# Altium footprint library Connector_PinHeader_1.27mm.PcbLib: 278 footprints (part 17 of 18)
Each footprint in its own frame and in the unit in brackets; x right, y up, seen from the top. Pads: shape width x height; smd on the part's side, far side on the other; paste and mask are expansions set on the pad; w line width, h text height; cw(c..) or ccw(c..) is an arc to the next point about the centre after c.
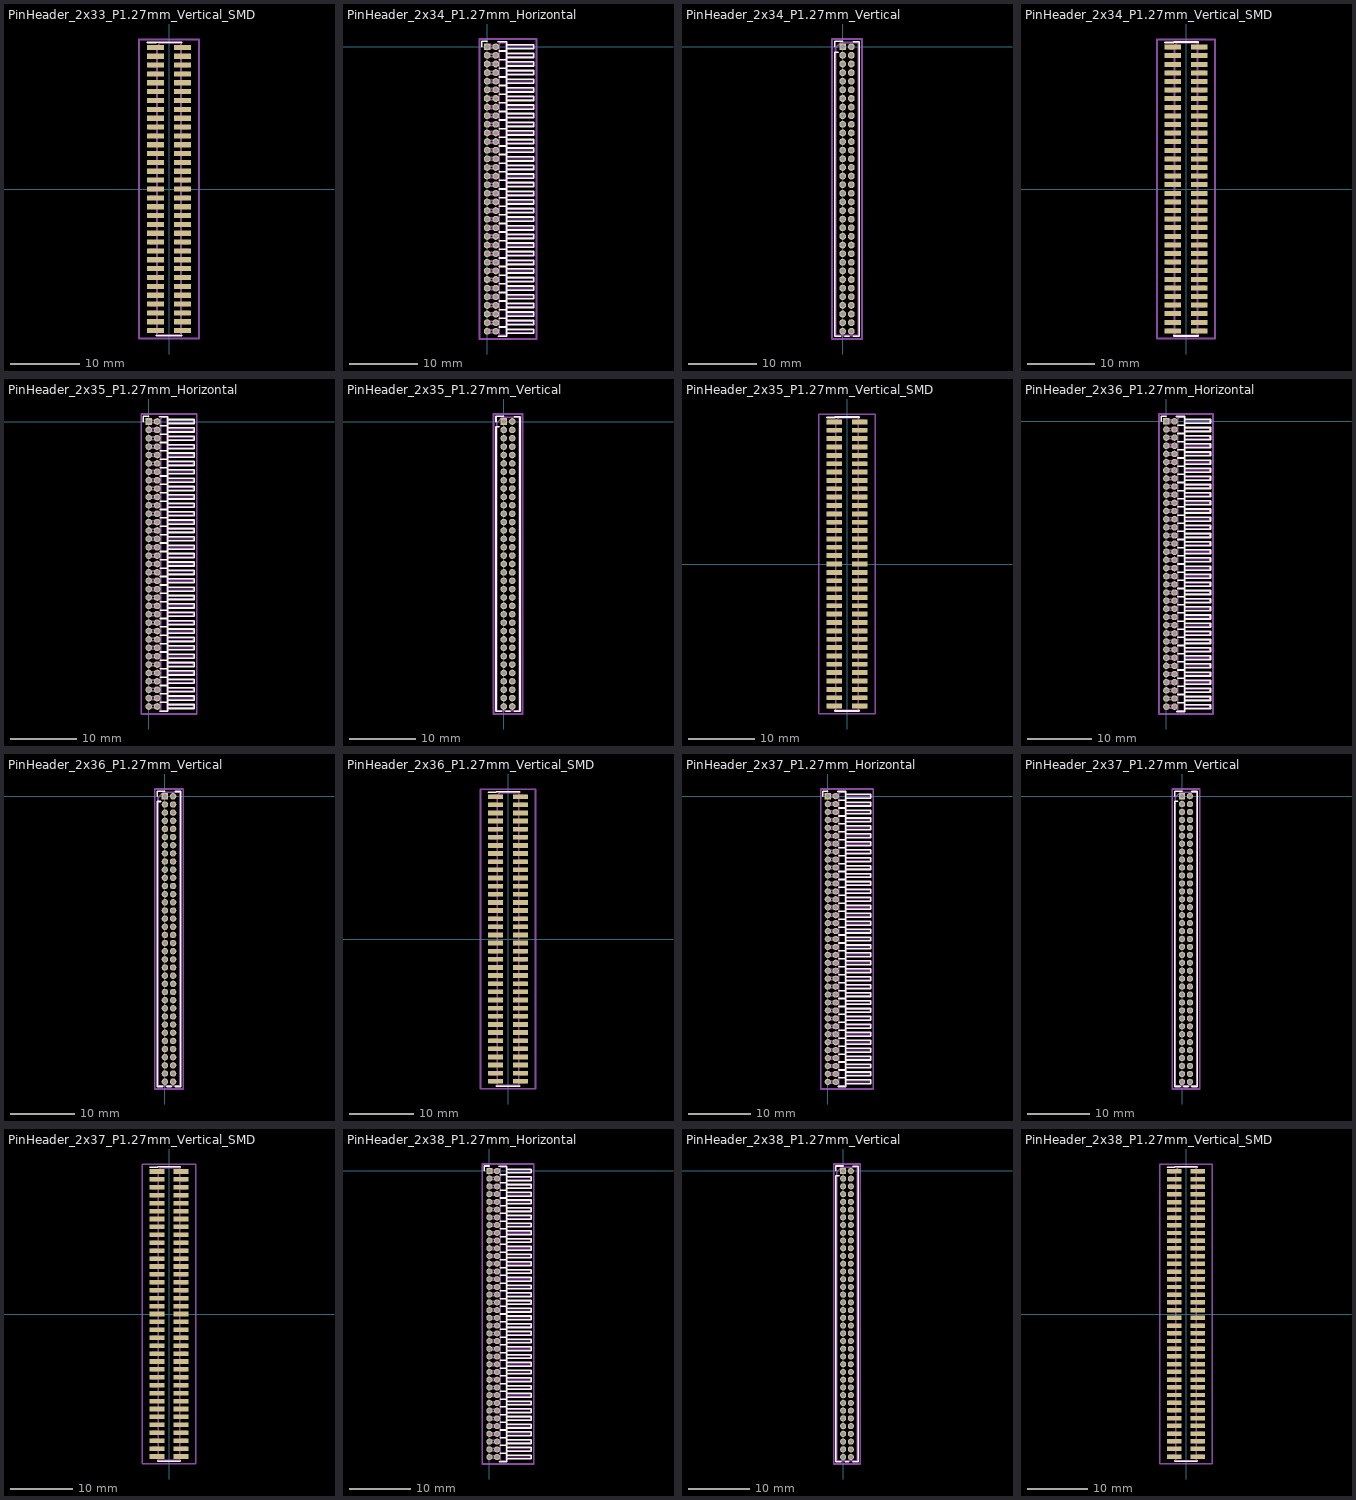
[diagram p16: the footprints below, top view; thin cyan lines are the x and y axes]

## PinHeader_2x33_P1.27mm_Vertical_SMD [mm]
pads (66):
  rect 2.4x0.74 smd: 1(-1.95,20.32) 2(1.95,20.32) 3(-1.95,19.05) 4(1.95,19.05) 5(-1.95,17.78) 6(1.95,17.78) 7(-1.95,16.51) 8(1.95,16.51) 9(-1.95,15.24) 10(1.95,15.24) 11(-1.95,13.97) 12(1.95,13.97) 13(-1.95,12.7) 14(1.95,12.7) 15(-1.95,11.43) 16(1.95,11.43) 17(-1.95,10.16) 18(1.95,10.16) 19(-1.95,8.89) 20(1.95,8.89) 21(-1.95,7.62) 22(1.95,7.62) 23(-1.95,6.35) 24(1.95,6.35) 25(-1.95,5.08) 26(1.95,5.08) 27(-1.95,3.81) 28(1.95,3.81) 29(-1.95,2.54) 30(1.95,2.54) 31(-1.95,1.27) 32(1.95,1.27) 33(-1.95,0) 34(1.95,0) 35(-1.95,-1.27) 36(1.95,-1.27) 37(-1.95,-2.54) 38(1.95,-2.54) 39(-1.95,-3.81) 40(1.95,-3.81) 41(-1.95,-5.08) 42(1.95,-5.08) 43(-1.95,-6.35) 44(1.95,-6.35) 45(-1.95,-7.62) 46(1.95,-7.62) 47(-1.95,-8.89) 48(1.95,-8.89) 49(-1.95,-10.16) 50(1.95,-10.16) 51(-1.95,-11.43) 52(1.95,-11.43) 53(-1.95,-12.7) 54(1.95,-12.7) 55(-1.95,-13.97) 56(1.95,-13.97) 57(-1.95,-15.24) 58(1.95,-15.24) 59(-1.95,-16.51) 60(1.95,-16.51) 61(-1.95,-17.78) 62(1.95,-17.78) 63(-1.95,-19.05) 64(1.95,-19.05) 65(-1.95,-20.32) 66(1.95,-20.32)
F.SilkS:
  lines w0.254: -3.09,21 -1.815,21 -1.815,21.065 1.815,21.065 1.815,21 ; -1.815,-21 -1.815,-21.065 1.815,-21.065 1.815,-21
Top Assembly:
  drawing of 203 lines, arcs and shapes, not listed
  text "'.Designator'" at 0.84,-4.047 h1
Top Courtyard:
  lines w0.254: -4.29,-21.46 4.29,-21.46 4.29,21.46 -4.29,21.46 -4.29,-21.46
Top Designator:
  text ".Designator" at -7.618,-0.508 h1.52

## PinHeader_2x34_P1.27mm_Horizontal [mm]
pads (68):
  rect 1x1 hole 0.65: 1(0,0)
  round 1 hole 0.65: 2(1.27,0) 3(0,-1.27) 4(1.27,-1.27) 5(0,-2.54) 6(1.27,-2.54) 7(0,-3.81) 8(1.27,-3.81) 9(0,-5.08) 10(1.27,-5.08) 11(0,-6.35) 12(1.27,-6.35) 13(0,-7.62) 14(1.27,-7.62) 15(0,-8.89) 16(1.27,-8.89) 17(0,-10.16) 18(1.27,-10.16) 19(0,-11.43) 20(1.27,-11.43) 21(0,-12.7) 22(1.27,-12.7) 23(0,-13.97) 24(1.27,-13.97) 25(0,-15.24) 26(1.27,-15.24) 27(0,-16.51) 28(1.27,-16.51) 29(0,-17.78) 30(1.27,-17.78) 31(0,-19.05) 32(1.27,-19.05) 33(0,-20.32) 34(1.27,-20.32) 35(0,-21.59) 36(1.27,-21.59) 37(0,-22.86) 38(1.27,-22.86) 39(0,-24.13) 40(1.27,-24.13) 41(0,-25.4) 42(1.27,-25.4) 43(0,-26.67) 44(1.27,-26.67) 45(0,-27.94) 46(1.27,-27.94) 47(0,-29.21) 48(1.27,-29.21) 49(0,-30.48) 50(1.27,-30.48) 51(0,-31.75) 52(1.27,-31.75) 53(0,-33.02) 54(1.27,-33.02) 55(0,-34.29) 56(1.27,-34.29) 57(0,-35.56) 58(1.27,-35.56) 59(0,-36.83) 60(1.27,-36.83) 61(0,-38.1) 62(1.27,-38.1) 63(0,-39.37) 64(1.27,-39.37) 65(0,-40.64) 66(1.27,-40.64) 67(0,-41.91) 68(1.27,-41.91)
F.SilkS:
  lines w0.254: -0.81,0 -0.81,0.81 0,0.81 ; 1.588,0.745 2.88,0.745 2.88,-42.655 1.66,-42.655 ; 1.773,-41.275 2.88,-41.275 ; 1.773,-40.005 2.88,-40.005 ; 1.773,-38.735 2.88,-38.735 ; 1.773,-37.465 2.88,-37.465 ; 1.773,-36.195 2.88,-36.195 ; 1.773,-34.925 2.88,-34.925 ; 1.773,-33.655 2.88,-33.655 ; 1.773,-32.385 2.88,-32.385 ; 1.773,-31.115 2.88,-31.115 ; 1.773,-29.845 2.88,-29.845 ; 1.773,-28.575 2.88,-28.575 ; 1.773,-27.305 2.88,-27.305 ; 1.773,-26.035 2.88,-26.035 ; 1.773,-24.765 2.88,-24.765 ; 1.773,-23.495 2.88,-23.495 ; 1.773,-22.225 2.88,-22.225 ; 1.773,-20.955 2.88,-20.955 ; 1.773,-19.685 2.88,-19.685 ; 1.773,-18.415 2.88,-18.415 ; 1.773,-17.145 2.88,-17.145 ; 1.773,-15.875 2.88,-15.875 ; 1.773,-14.605 2.88,-14.605 ; 1.773,-13.335 2.88,-13.335 ; 1.773,-12.065 2.88,-12.065 ; 1.773,-10.795 2.88,-10.795 ; 1.773,-9.525 2.88,-9.525 ; 1.773,-8.255 2.88,-8.255 ; 1.773,-6.985 2.88,-6.985 ; 1.773,-5.715 2.88,-5.715 ; 1.773,-4.445 2.88,-4.445 ; 1.773,-3.175 2.88,-3.175 ; 1.773,-1.905 2.88,-1.905 ; 1.773,-0.635 2.88,-0.635 ; 2.88,-42.22 6.88,-42.22 6.88,-41.6 2.88,-41.6 ; 2.88,-40.95 6.88,-40.95 6.88,-40.33 2.88,-40.33 ; 2.88,-39.68 6.88,-39.68 6.88,-39.06 2.88,-39.06 ; 2.88,-38.41 6.88,-38.41 6.88,-37.79 2.88,-37.79 ; 2.88,-37.14 6.88,-37.14 6.88,-36.52 2.88,-36.52 ; 2.88,-35.87 6.88,-35.87 6.88,-35.25 2.88,-35.25 ; 2.88,-34.6 6.88,-34.6 6.88,-33.98 2.88,-33.98 ; 2.88,-33.33 6.88,-33.33 6.88,-32.71 2.88,-32.71 ; 2.88,-32.06 6.88,-32.06 6.88,-31.44 2.88,-31.44 ; 2.88,-30.79 6.88,-30.79 6.88,-30.17 2.88,-30.17 ; 2.88,-29.52 6.88,-29.52 6.88,-28.9 2.88,-28.9 ; 2.88,-28.25 6.88,-28.25 6.88,-27.63 2.88,-27.63 ; 2.88,-26.98 6.88,-26.98 6.88,-26.36 2.88,-26.36 ; 2.88,-25.71 6.88,-25.71 6.88,-25.09 2.88,-25.09 ; 2.88,-24.44 6.88,-24.44 6.88,-23.82 2.88,-23.82 ; 2.88,-23.17 6.88,-23.17 6.88,-22.55 2.88,-22.55 ; 2.88,-21.9 6.88,-21.9 6.88,-21.28 2.88,-21.28 ; 2.88,-20.63 6.88,-20.63 6.88,-20.01 2.88,-20.01 ; 2.88,-19.36 6.88,-19.36 6.88,-18.74 2.88,-18.74 ; 2.88,-18.09 6.88,-18.09 6.88,-17.47 2.88,-17.47 ; 2.88,-16.82 6.88,-16.82 6.88,-16.2 2.88,-16.2 ; 2.88,-15.55 6.88,-15.55 6.88,-14.93 2.88,-14.93 ; 2.88,-14.28 6.88,-14.28 6.88,-13.66 2.88,-13.66 ; 2.88,-13.01 6.88,-13.01 6.88,-12.39 2.88,-12.39 ; 2.88,-11.74 6.88,-11.74 6.88,-11.12 2.88,-11.12 ; 2.88,-10.47 6.88,-10.47 6.88,-9.85 2.88,-9.85 ; 2.88,-9.2 6.88,-9.2 6.88,-8.58 2.88,-8.58 ; 2.88,-7.93 6.88,-7.93 6.88,-7.31 2.88,-7.31 ; 2.88,-6.66 6.88,-6.66 6.88,-6.04 2.88,-6.04 ; 2.88,-5.39 6.88,-5.39 6.88,-4.77 2.88,-4.77 ; 2.88,-4.12 6.88,-4.12 6.88,-3.5 2.88,-3.5 ; 2.88,-2.85 6.88,-2.85 6.88,-2.23 2.88,-2.23 ; 2.88,-1.58 6.88,-1.58 6.88,-0.96 2.88,-0.96 ; 2.88,-0.31 6.88,-0.31 6.88,0.31 2.88,0.31 2.88,-0.31
Top Assembly:
  drawing of 209 lines, arcs and shapes, not listed
  text "'.Designator'" at 2.774,-23.383 h0.6
Top Courtyard:
  lines w0.254: -1.14,-43.05 7.28,-43.05 7.28,1.14 -1.14,1.14 -1.14,-43.05
Top Designator:
  text ".Designator" at -4.548,-21.463 h1.52

## PinHeader_2x34_P1.27mm_Vertical [mm]
pads (68):
  rect 1x1 hole 0.65: 1(0,0)
  round 1 hole 0.65: 2(1.27,0) 3(0,-1.27) 4(1.27,-1.27) 5(0,-2.54) 6(1.27,-2.54) 7(0,-3.81) 8(1.27,-3.81) 9(0,-5.08) 10(1.27,-5.08) 11(0,-6.35) 12(1.27,-6.35) 13(0,-7.62) 14(1.27,-7.62) 15(0,-8.89) 16(1.27,-8.89) 17(0,-10.16) 18(1.27,-10.16) 19(0,-11.43) 20(1.27,-11.43) 21(0,-12.7) 22(1.27,-12.7) 23(0,-13.97) 24(1.27,-13.97) 25(0,-15.24) 26(1.27,-15.24) 27(0,-16.51) 28(1.27,-16.51) 29(0,-17.78) 30(1.27,-17.78) 31(0,-19.05) 32(1.27,-19.05) 33(0,-20.32) 34(1.27,-20.32) 35(0,-21.59) 36(1.27,-21.59) 37(0,-22.86) 38(1.27,-22.86) 39(0,-24.13) 40(1.27,-24.13) 41(0,-25.4) 42(1.27,-25.4) 43(0,-26.67) 44(1.27,-26.67) 45(0,-27.94) 46(1.27,-27.94) 47(0,-29.21) 48(1.27,-29.21) 49(0,-30.48) 50(1.27,-30.48) 51(0,-31.75) 52(1.27,-31.75) 53(0,-33.02) 54(1.27,-33.02) 55(0,-34.29) 56(1.27,-34.29) 57(0,-35.56) 58(1.27,-35.56) 59(0,-36.83) 60(1.27,-36.83) 61(0,-38.1) 62(1.27,-38.1) 63(0,-39.37) 64(1.27,-39.37) 65(0,-40.64) 66(1.27,-40.64) 67(0,-41.91) 68(1.27,-41.91)
F.SilkS:
  lines w0.254: -1.18,0 -1.18,0.81 0,0.81 ; -0.667,-0.81 -1.18,-0.81 -1.18,-42.655 -0.318,-42.655 ; 0.318,-42.655 0.952,-42.655 ; 1.588,-42.655 2.45,-42.655 2.45,0.745 1.588,0.745
Top Assembly:
  lines w0.254: -1.07,-42.545 2.34,-42.545 2.34,0.635 -0.218,0.635 -1.07,-0.218 -1.07,-42.545
  text "'.Designator'" at 1.475,-25.002 h1
Top Courtyard:
  lines w0.254: -1.57,-43.05 2.84,-43.05 2.84,1.14 -1.57,1.14 -1.57,-43.05
Top Designator:
  text ".Designator" at -6.983,-21.463 h1.52

## PinHeader_2x34_P1.27mm_Vertical_SMD [mm]
pads (68):
  rect 2.4x0.74 smd: 1(-1.95,20.955) 2(1.95,20.955) 3(-1.95,19.685) 4(1.95,19.685) 5(-1.95,18.415) 6(1.95,18.415) 7(-1.95,17.145) 8(1.95,17.145) 9(-1.95,15.875) 10(1.95,15.875) 11(-1.95,14.605) 12(1.95,14.605) 13(-1.95,13.335) 14(1.95,13.335) 15(-1.95,12.065) 16(1.95,12.065) 17(-1.95,10.795) 18(1.95,10.795) 19(-1.95,9.525) 20(1.95,9.525) 21(-1.95,8.255) 22(1.95,8.255) 23(-1.95,6.985) 24(1.95,6.985) 25(-1.95,5.715) 26(1.95,5.715) 27(-1.95,4.445) 28(1.95,4.445) 29(-1.95,3.175) 30(1.95,3.175) 31(-1.95,1.905) 32(1.95,1.905) 33(-1.95,0.635) 34(1.95,0.635) 35(-1.95,-0.635) 36(1.95,-0.635) 37(-1.95,-1.905) 38(1.95,-1.905) 39(-1.95,-3.175) 40(1.95,-3.175) 41(-1.95,-4.445) 42(1.95,-4.445) 43(-1.95,-5.715) 44(1.95,-5.715) 45(-1.95,-6.985) 46(1.95,-6.985) 47(-1.95,-8.255) 48(1.95,-8.255) 49(-1.95,-9.525) 50(1.95,-9.525) 51(-1.95,-10.795) 52(1.95,-10.795) 53(-1.95,-12.065) 54(1.95,-12.065) 55(-1.95,-13.335) 56(1.95,-13.335) 57(-1.95,-14.605) 58(1.95,-14.605) 59(-1.95,-15.875) 60(1.95,-15.875) 61(-1.95,-17.145) 62(1.95,-17.145) 63(-1.95,-18.415) 64(1.95,-18.415) 65(-1.95,-19.685) 66(1.95,-19.685) 67(-1.95,-20.955) 68(1.95,-20.955)
F.SilkS:
  lines w0.254: -3.09,21.635 -1.815,21.635 -1.815,21.7 1.815,21.7 1.815,21.635 ; -1.815,-21.635 -1.815,-21.7 1.815,-21.7 1.815,-21.635
Top Assembly:
  drawing of 209 lines, arcs and shapes, not listed
  text "'.Designator'" at 0.84,-4.047 h1
Top Courtyard:
  lines w0.254: -4.29,-22.09 4.29,-22.09 4.29,22.09 -4.29,22.09 -4.29,-22.09
Top Designator:
  text ".Designator" at -7.618,-0.508 h1.52

## PinHeader_2x35_P1.27mm_Horizontal [mm]
pads (70):
  rect 1x1 hole 0.65: 1(0,0)
  round 1 hole 0.65: 2(1.27,0) 3(0,-1.27) 4(1.27,-1.27) 5(0,-2.54) 6(1.27,-2.54) 7(0,-3.81) 8(1.27,-3.81) 9(0,-5.08) 10(1.27,-5.08) 11(0,-6.35) 12(1.27,-6.35) 13(0,-7.62) 14(1.27,-7.62) 15(0,-8.89) 16(1.27,-8.89) 17(0,-10.16) 18(1.27,-10.16) 19(0,-11.43) 20(1.27,-11.43) 21(0,-12.7) 22(1.27,-12.7) 23(0,-13.97) 24(1.27,-13.97) 25(0,-15.24) 26(1.27,-15.24) 27(0,-16.51) 28(1.27,-16.51) 29(0,-17.78) 30(1.27,-17.78) 31(0,-19.05) 32(1.27,-19.05) 33(0,-20.32) 34(1.27,-20.32) 35(0,-21.59) 36(1.27,-21.59) 37(0,-22.86) 38(1.27,-22.86) 39(0,-24.13) 40(1.27,-24.13) 41(0,-25.4) 42(1.27,-25.4) 43(0,-26.67) 44(1.27,-26.67) 45(0,-27.94) 46(1.27,-27.94) 47(0,-29.21) 48(1.27,-29.21) 49(0,-30.48) 50(1.27,-30.48) 51(0,-31.75) 52(1.27,-31.75) 53(0,-33.02) 54(1.27,-33.02) 55(0,-34.29) 56(1.27,-34.29) 57(0,-35.56) 58(1.27,-35.56) 59(0,-36.83) 60(1.27,-36.83) 61(0,-38.1) 62(1.27,-38.1) 63(0,-39.37) 64(1.27,-39.37) 65(0,-40.64) 66(1.27,-40.64) 67(0,-41.91) 68(1.27,-41.91) 69(0,-43.18) 70(1.27,-43.18)
F.SilkS:
  lines w0.254: -0.81,0 -0.81,0.81 0,0.81 ; 1.588,0.745 2.88,0.745 2.88,-43.925 1.66,-43.925 ; 1.773,-42.545 2.88,-42.545 ; 1.773,-41.275 2.88,-41.275 ; 1.773,-40.005 2.88,-40.005 ; 1.773,-38.735 2.88,-38.735 ; 1.773,-37.465 2.88,-37.465 ; 1.773,-36.195 2.88,-36.195 ; 1.773,-34.925 2.88,-34.925 ; 1.773,-33.655 2.88,-33.655 ; 1.773,-32.385 2.88,-32.385 ; 1.773,-31.115 2.88,-31.115 ; 1.773,-29.845 2.88,-29.845 ; 1.773,-28.575 2.88,-28.575 ; 1.773,-27.305 2.88,-27.305 ; 1.773,-26.035 2.88,-26.035 ; 1.773,-24.765 2.88,-24.765 ; 1.773,-23.495 2.88,-23.495 ; 1.773,-22.225 2.88,-22.225 ; 1.773,-20.955 2.88,-20.955 ; 1.773,-19.685 2.88,-19.685 ; 1.773,-18.415 2.88,-18.415 ; 1.773,-17.145 2.88,-17.145 ; 1.773,-15.875 2.88,-15.875 ; 1.773,-14.605 2.88,-14.605 ; 1.773,-13.335 2.88,-13.335 ; 1.773,-12.065 2.88,-12.065 ; 1.773,-10.795 2.88,-10.795 ; 1.773,-9.525 2.88,-9.525 ; 1.773,-8.255 2.88,-8.255 ; 1.773,-6.985 2.88,-6.985 ; 1.773,-5.715 2.88,-5.715 ; 1.773,-4.445 2.88,-4.445 ; 1.773,-3.175 2.88,-3.175 ; 1.773,-1.905 2.88,-1.905 ; 1.773,-0.635 2.88,-0.635 ; 2.88,-43.49 6.88,-43.49 6.88,-42.87 2.88,-42.87 ; 2.88,-42.22 6.88,-42.22 6.88,-41.6 2.88,-41.6 ; 2.88,-40.95 6.88,-40.95 6.88,-40.33 2.88,-40.33 ; 2.88,-39.68 6.88,-39.68 6.88,-39.06 2.88,-39.06 ; 2.88,-38.41 6.88,-38.41 6.88,-37.79 2.88,-37.79 ; 2.88,-37.14 6.88,-37.14 6.88,-36.52 2.88,-36.52 ; 2.88,-35.87 6.88,-35.87 6.88,-35.25 2.88,-35.25 ; 2.88,-34.6 6.88,-34.6 6.88,-33.98 2.88,-33.98 ; 2.88,-33.33 6.88,-33.33 6.88,-32.71 2.88,-32.71 ; 2.88,-32.06 6.88,-32.06 6.88,-31.44 2.88,-31.44 ; 2.88,-30.79 6.88,-30.79 6.88,-30.17 2.88,-30.17 ; 2.88,-29.52 6.88,-29.52 6.88,-28.9 2.88,-28.9 ; 2.88,-28.25 6.88,-28.25 6.88,-27.63 2.88,-27.63 ; 2.88,-26.98 6.88,-26.98 6.88,-26.36 2.88,-26.36 ; 2.88,-25.71 6.88,-25.71 6.88,-25.09 2.88,-25.09 ; 2.88,-24.44 6.88,-24.44 6.88,-23.82 2.88,-23.82 ; 2.88,-23.17 6.88,-23.17 6.88,-22.55 2.88,-22.55 ; 2.88,-21.9 6.88,-21.9 6.88,-21.28 2.88,-21.28 ; 2.88,-20.63 6.88,-20.63 6.88,-20.01 2.88,-20.01 ; 2.88,-19.36 6.88,-19.36 6.88,-18.74 2.88,-18.74 ; 2.88,-18.09 6.88,-18.09 6.88,-17.47 2.88,-17.47 ; 2.88,-16.82 6.88,-16.82 6.88,-16.2 2.88,-16.2 ; 2.88,-15.55 6.88,-15.55 6.88,-14.93 2.88,-14.93 ; 2.88,-14.28 6.88,-14.28 6.88,-13.66 2.88,-13.66 ; 2.88,-13.01 6.88,-13.01 6.88,-12.39 2.88,-12.39 ; 2.88,-11.74 6.88,-11.74 6.88,-11.12 2.88,-11.12 ; 2.88,-10.47 6.88,-10.47 6.88,-9.85 2.88,-9.85 ; 2.88,-9.2 6.88,-9.2 6.88,-8.58 2.88,-8.58 ; 2.88,-7.93 6.88,-7.93 6.88,-7.31 2.88,-7.31 ; 2.88,-6.66 6.88,-6.66 6.88,-6.04 2.88,-6.04 ; 2.88,-5.39 6.88,-5.39 6.88,-4.77 2.88,-4.77 ; 2.88,-4.12 6.88,-4.12 6.88,-3.5 2.88,-3.5 ; 2.88,-2.85 6.88,-2.85 6.88,-2.23 2.88,-2.23 ; 2.88,-1.58 6.88,-1.58 6.88,-0.96 2.88,-0.96 ; 2.88,-0.31 6.88,-0.31 6.88,0.31 2.88,0.31 2.88,-0.31
Top Assembly:
  drawing of 215 lines, arcs and shapes, not listed
  text "'.Designator'" at 2.774,-24.018 h0.6
Top Courtyard:
  lines w0.254: -1.14,-44.32 7.28,-44.32 7.28,1.14 -1.14,1.14 -1.14,-44.32
Top Designator:
  text ".Designator" at -4.548,-22.098 h1.52

## PinHeader_2x35_P1.27mm_Vertical [mm]
pads (70):
  rect 1x1 hole 0.65: 1(0,0)
  round 1 hole 0.65: 2(1.27,0) 3(0,-1.27) 4(1.27,-1.27) 5(0,-2.54) 6(1.27,-2.54) 7(0,-3.81) 8(1.27,-3.81) 9(0,-5.08) 10(1.27,-5.08) 11(0,-6.35) 12(1.27,-6.35) 13(0,-7.62) 14(1.27,-7.62) 15(0,-8.89) 16(1.27,-8.89) 17(0,-10.16) 18(1.27,-10.16) 19(0,-11.43) 20(1.27,-11.43) 21(0,-12.7) 22(1.27,-12.7) 23(0,-13.97) 24(1.27,-13.97) 25(0,-15.24) 26(1.27,-15.24) 27(0,-16.51) 28(1.27,-16.51) 29(0,-17.78) 30(1.27,-17.78) 31(0,-19.05) 32(1.27,-19.05) 33(0,-20.32) 34(1.27,-20.32) 35(0,-21.59) 36(1.27,-21.59) 37(0,-22.86) 38(1.27,-22.86) 39(0,-24.13) 40(1.27,-24.13) 41(0,-25.4) 42(1.27,-25.4) 43(0,-26.67) 44(1.27,-26.67) 45(0,-27.94) 46(1.27,-27.94) 47(0,-29.21) 48(1.27,-29.21) 49(0,-30.48) 50(1.27,-30.48) 51(0,-31.75) 52(1.27,-31.75) 53(0,-33.02) 54(1.27,-33.02) 55(0,-34.29) 56(1.27,-34.29) 57(0,-35.56) 58(1.27,-35.56) 59(0,-36.83) 60(1.27,-36.83) 61(0,-38.1) 62(1.27,-38.1) 63(0,-39.37) 64(1.27,-39.37) 65(0,-40.64) 66(1.27,-40.64) 67(0,-41.91) 68(1.27,-41.91) 69(0,-43.18) 70(1.27,-43.18)
F.SilkS:
  lines w0.254: -1.18,0 -1.18,0.81 0,0.81 ; -0.667,-0.81 -1.18,-0.81 -1.18,-43.925 -0.318,-43.925 ; 0.318,-43.925 0.952,-43.925 ; 1.588,-43.925 2.45,-43.925 2.45,0.745 1.588,0.745
Top Assembly:
  lines w0.254: -1.07,-43.815 2.34,-43.815 2.34,0.635 -0.218,0.635 -1.07,-0.218 -1.07,-43.815
  text "'.Designator'" at 1.475,-25.637 h1
Top Courtyard:
  lines w0.254: -1.57,-44.32 2.84,-44.32 2.84,1.14 -1.57,1.14 -1.57,-44.32
Top Designator:
  text ".Designator" at -6.983,-22.098 h1.52

## PinHeader_2x35_P1.27mm_Vertical_SMD [mm]
pads (70):
  rect 2.4x0.74 smd: 1(-1.95,21.59) 2(1.95,21.59) 3(-1.95,20.32) 4(1.95,20.32) 5(-1.95,19.05) 6(1.95,19.05) 7(-1.95,17.78) 8(1.95,17.78) 9(-1.95,16.51) 10(1.95,16.51) 11(-1.95,15.24) 12(1.95,15.24) 13(-1.95,13.97) 14(1.95,13.97) 15(-1.95,12.7) 16(1.95,12.7) 17(-1.95,11.43) 18(1.95,11.43) 19(-1.95,10.16) 20(1.95,10.16) 21(-1.95,8.89) 22(1.95,8.89) 23(-1.95,7.62) 24(1.95,7.62) 25(-1.95,6.35) 26(1.95,6.35) 27(-1.95,5.08) 28(1.95,5.08) 29(-1.95,3.81) 30(1.95,3.81) 31(-1.95,2.54) 32(1.95,2.54) 33(-1.95,1.27) 34(1.95,1.27) 35(-1.95,0) 36(1.95,0) 37(-1.95,-1.27) 38(1.95,-1.27) 39(-1.95,-2.54) 40(1.95,-2.54) 41(-1.95,-3.81) 42(1.95,-3.81) 43(-1.95,-5.08) 44(1.95,-5.08) 45(-1.95,-6.35) 46(1.95,-6.35) 47(-1.95,-7.62) 48(1.95,-7.62) 49(-1.95,-8.89) 50(1.95,-8.89) 51(-1.95,-10.16) 52(1.95,-10.16) 53(-1.95,-11.43) 54(1.95,-11.43) 55(-1.95,-12.7) 56(1.95,-12.7) 57(-1.95,-13.97) 58(1.95,-13.97) 59(-1.95,-15.24) 60(1.95,-15.24) 61(-1.95,-16.51) 62(1.95,-16.51) 63(-1.95,-17.78) 64(1.95,-17.78) 65(-1.95,-19.05) 66(1.95,-19.05) 67(-1.95,-20.32) 68(1.95,-20.32) 69(-1.95,-21.59) 70(1.95,-21.59)
F.SilkS:
  lines w0.254: -3.09,22.27 -1.815,22.27 -1.815,22.335 1.815,22.335 1.815,22.27 ; -1.815,-22.27 -1.815,-22.335 1.815,-22.335 1.815,-22.27
Top Assembly:
  drawing of 215 lines, arcs and shapes, not listed
  text "'.Designator'" at 0.84,-4.047 h1
Top Courtyard:
  lines w0.254: -4.29,-22.73 4.29,-22.73 4.29,22.73 -4.29,22.73 -4.29,-22.73
Top Designator:
  text ".Designator" at -7.618,-0.508 h1.52

## PinHeader_2x36_P1.27mm_Horizontal [mm]
pads (72):
  rect 1x1 hole 0.65: 1(0,0)
  round 1 hole 0.65: 2(1.27,0) 3(0,-1.27) 4(1.27,-1.27) 5(0,-2.54) 6(1.27,-2.54) 7(0,-3.81) 8(1.27,-3.81) 9(0,-5.08) 10(1.27,-5.08) 11(0,-6.35) 12(1.27,-6.35) 13(0,-7.62) 14(1.27,-7.62) 15(0,-8.89) 16(1.27,-8.89) 17(0,-10.16) 18(1.27,-10.16) 19(0,-11.43) 20(1.27,-11.43) 21(0,-12.7) 22(1.27,-12.7) 23(0,-13.97) 24(1.27,-13.97) 25(0,-15.24) 26(1.27,-15.24) 27(0,-16.51) 28(1.27,-16.51) 29(0,-17.78) 30(1.27,-17.78) 31(0,-19.05) 32(1.27,-19.05) 33(0,-20.32) 34(1.27,-20.32) 35(0,-21.59) 36(1.27,-21.59) 37(0,-22.86) 38(1.27,-22.86) 39(0,-24.13) 40(1.27,-24.13) 41(0,-25.4) 42(1.27,-25.4) 43(0,-26.67) 44(1.27,-26.67) 45(0,-27.94) 46(1.27,-27.94) 47(0,-29.21) 48(1.27,-29.21) 49(0,-30.48) 50(1.27,-30.48) 51(0,-31.75) 52(1.27,-31.75) 53(0,-33.02) 54(1.27,-33.02) 55(0,-34.29) 56(1.27,-34.29) 57(0,-35.56) 58(1.27,-35.56) 59(0,-36.83) 60(1.27,-36.83) 61(0,-38.1) 62(1.27,-38.1) 63(0,-39.37) 64(1.27,-39.37) 65(0,-40.64) 66(1.27,-40.64) 67(0,-41.91) 68(1.27,-41.91) 69(0,-43.18) 70(1.27,-43.18) 71(0,-44.45) 72(1.27,-44.45)
F.SilkS:
  lines w0.254: -0.81,0 -0.81,0.81 0,0.81 ; 1.588,0.745 2.88,0.745 2.88,-45.195 1.66,-45.195 ; 1.773,-43.815 2.88,-43.815 ; 1.773,-42.545 2.88,-42.545 ; 1.773,-41.275 2.88,-41.275 ; 1.773,-40.005 2.88,-40.005 ; 1.773,-38.735 2.88,-38.735 ; 1.773,-37.465 2.88,-37.465 ; 1.773,-36.195 2.88,-36.195 ; 1.773,-34.925 2.88,-34.925 ; 1.773,-33.655 2.88,-33.655 ; 1.773,-32.385 2.88,-32.385 ; 1.773,-31.115 2.88,-31.115 ; 1.773,-29.845 2.88,-29.845 ; 1.773,-28.575 2.88,-28.575 ; 1.773,-27.305 2.88,-27.305 ; 1.773,-26.035 2.88,-26.035 ; 1.773,-24.765 2.88,-24.765 ; 1.773,-23.495 2.88,-23.495 ; 1.773,-22.225 2.88,-22.225 ; 1.773,-20.955 2.88,-20.955 ; 1.773,-19.685 2.88,-19.685 ; 1.773,-18.415 2.88,-18.415 ; 1.773,-17.145 2.88,-17.145 ; 1.773,-15.875 2.88,-15.875 ; 1.773,-14.605 2.88,-14.605 ; 1.773,-13.335 2.88,-13.335 ; 1.773,-12.065 2.88,-12.065 ; 1.773,-10.795 2.88,-10.795 ; 1.773,-9.525 2.88,-9.525 ; 1.773,-8.255 2.88,-8.255 ; 1.773,-6.985 2.88,-6.985 ; 1.773,-5.715 2.88,-5.715 ; 1.773,-4.445 2.88,-4.445 ; 1.773,-3.175 2.88,-3.175 ; 1.773,-1.905 2.88,-1.905 ; 1.773,-0.635 2.88,-0.635 ; 2.88,-44.76 6.88,-44.76 6.88,-44.14 2.88,-44.14 ; 2.88,-43.49 6.88,-43.49 6.88,-42.87 2.88,-42.87 ; 2.88,-42.22 6.88,-42.22 6.88,-41.6 2.88,-41.6 ; 2.88,-40.95 6.88,-40.95 6.88,-40.33 2.88,-40.33 ; 2.88,-39.68 6.88,-39.68 6.88,-39.06 2.88,-39.06 ; 2.88,-38.41 6.88,-38.41 6.88,-37.79 2.88,-37.79 ; 2.88,-37.14 6.88,-37.14 6.88,-36.52 2.88,-36.52 ; 2.88,-35.87 6.88,-35.87 6.88,-35.25 2.88,-35.25 ; 2.88,-34.6 6.88,-34.6 6.88,-33.98 2.88,-33.98 ; 2.88,-33.33 6.88,-33.33 6.88,-32.71 2.88,-32.71 ; 2.88,-32.06 6.88,-32.06 6.88,-31.44 2.88,-31.44 ; 2.88,-30.79 6.88,-30.79 6.88,-30.17 2.88,-30.17 ; 2.88,-29.52 6.88,-29.52 6.88,-28.9 2.88,-28.9 ; 2.88,-28.25 6.88,-28.25 6.88,-27.63 2.88,-27.63 ; 2.88,-26.98 6.88,-26.98 6.88,-26.36 2.88,-26.36 ; 2.88,-25.71 6.88,-25.71 6.88,-25.09 2.88,-25.09 ; 2.88,-24.44 6.88,-24.44 6.88,-23.82 2.88,-23.82 ; 2.88,-23.17 6.88,-23.17 6.88,-22.55 2.88,-22.55 ; 2.88,-21.9 6.88,-21.9 6.88,-21.28 2.88,-21.28 ; 2.88,-20.63 6.88,-20.63 6.88,-20.01 2.88,-20.01 ; 2.88,-19.36 6.88,-19.36 6.88,-18.74 2.88,-18.74 ; 2.88,-18.09 6.88,-18.09 6.88,-17.47 2.88,-17.47 ; 2.88,-16.82 6.88,-16.82 6.88,-16.2 2.88,-16.2 ; 2.88,-15.55 6.88,-15.55 6.88,-14.93 2.88,-14.93 ; 2.88,-14.28 6.88,-14.28 6.88,-13.66 2.88,-13.66 ; 2.88,-13.01 6.88,-13.01 6.88,-12.39 2.88,-12.39 ; 2.88,-11.74 6.88,-11.74 6.88,-11.12 2.88,-11.12 ; 2.88,-10.47 6.88,-10.47 6.88,-9.85 2.88,-9.85 ; 2.88,-9.2 6.88,-9.2 6.88,-8.58 2.88,-8.58 ; 2.88,-7.93 6.88,-7.93 6.88,-7.31 2.88,-7.31 ; 2.88,-6.66 6.88,-6.66 6.88,-6.04 2.88,-6.04 ; 2.88,-5.39 6.88,-5.39 6.88,-4.77 2.88,-4.77 ; 2.88,-4.12 6.88,-4.12 6.88,-3.5 2.88,-3.5 ; 2.88,-2.85 6.88,-2.85 6.88,-2.23 2.88,-2.23 ; 2.88,-1.58 6.88,-1.58 6.88,-0.96 2.88,-0.96 ; 2.88,-0.31 6.88,-0.31 6.88,0.31 2.88,0.31 2.88,-0.31
Top Assembly:
  drawing of 221 lines, arcs and shapes, not listed
  text "'.Designator'" at 2.774,-24.653 h0.6
Top Courtyard:
  lines w0.254: -1.14,-45.59 7.28,-45.59 7.28,1.14 -1.14,1.14 -1.14,-45.59
Top Designator:
  text ".Designator" at -4.548,-22.733 h1.52

## PinHeader_2x36_P1.27mm_Vertical [mm]
pads (72):
  rect 1x1 hole 0.65: 1(0,0)
  round 1 hole 0.65: 2(1.27,0) 3(0,-1.27) 4(1.27,-1.27) 5(0,-2.54) 6(1.27,-2.54) 7(0,-3.81) 8(1.27,-3.81) 9(0,-5.08) 10(1.27,-5.08) 11(0,-6.35) 12(1.27,-6.35) 13(0,-7.62) 14(1.27,-7.62) 15(0,-8.89) 16(1.27,-8.89) 17(0,-10.16) 18(1.27,-10.16) 19(0,-11.43) 20(1.27,-11.43) 21(0,-12.7) 22(1.27,-12.7) 23(0,-13.97) 24(1.27,-13.97) 25(0,-15.24) 26(1.27,-15.24) 27(0,-16.51) 28(1.27,-16.51) 29(0,-17.78) 30(1.27,-17.78) 31(0,-19.05) 32(1.27,-19.05) 33(0,-20.32) 34(1.27,-20.32) 35(0,-21.59) 36(1.27,-21.59) 37(0,-22.86) 38(1.27,-22.86) 39(0,-24.13) 40(1.27,-24.13) 41(0,-25.4) 42(1.27,-25.4) 43(0,-26.67) 44(1.27,-26.67) 45(0,-27.94) 46(1.27,-27.94) 47(0,-29.21) 48(1.27,-29.21) 49(0,-30.48) 50(1.27,-30.48) 51(0,-31.75) 52(1.27,-31.75) 53(0,-33.02) 54(1.27,-33.02) 55(0,-34.29) 56(1.27,-34.29) 57(0,-35.56) 58(1.27,-35.56) 59(0,-36.83) 60(1.27,-36.83) 61(0,-38.1) 62(1.27,-38.1) 63(0,-39.37) 64(1.27,-39.37) 65(0,-40.64) 66(1.27,-40.64) 67(0,-41.91) 68(1.27,-41.91) 69(0,-43.18) 70(1.27,-43.18) 71(0,-44.45) 72(1.27,-44.45)
F.SilkS:
  lines w0.254: -1.18,0 -1.18,0.81 0,0.81 ; -0.667,-0.81 -1.18,-0.81 -1.18,-45.195 -0.318,-45.195 ; 0.318,-45.195 0.952,-45.195 ; 1.588,-45.195 2.45,-45.195 2.45,0.745 1.588,0.745
Top Assembly:
  lines w0.254: -1.07,-45.085 2.34,-45.085 2.34,0.635 -0.218,0.635 -1.07,-0.218 -1.07,-45.085
  text "'.Designator'" at 1.475,-26.272 h1
Top Courtyard:
  lines w0.254: -1.57,-45.59 2.84,-45.59 2.84,1.14 -1.57,1.14 -1.57,-45.59
Top Designator:
  text ".Designator" at -6.983,-22.733 h1.52

## PinHeader_2x36_P1.27mm_Vertical_SMD [mm]
pads (72):
  rect 2.4x0.74 smd: 1(-1.95,22.225) 2(1.95,22.225) 3(-1.95,20.955) 4(1.95,20.955) 5(-1.95,19.685) 6(1.95,19.685) 7(-1.95,18.415) 8(1.95,18.415) 9(-1.95,17.145) 10(1.95,17.145) 11(-1.95,15.875) 12(1.95,15.875) 13(-1.95,14.605) 14(1.95,14.605) 15(-1.95,13.335) 16(1.95,13.335) 17(-1.95,12.065) 18(1.95,12.065) 19(-1.95,10.795) 20(1.95,10.795) 21(-1.95,9.525) 22(1.95,9.525) 23(-1.95,8.255) 24(1.95,8.255) 25(-1.95,6.985) 26(1.95,6.985) 27(-1.95,5.715) 28(1.95,5.715) 29(-1.95,4.445) 30(1.95,4.445) 31(-1.95,3.175) 32(1.95,3.175) 33(-1.95,1.905) 34(1.95,1.905) 35(-1.95,0.635) 36(1.95,0.635) 37(-1.95,-0.635) 38(1.95,-0.635) 39(-1.95,-1.905) 40(1.95,-1.905) 41(-1.95,-3.175) 42(1.95,-3.175) 43(-1.95,-4.445) 44(1.95,-4.445) 45(-1.95,-5.715) 46(1.95,-5.715) 47(-1.95,-6.985) 48(1.95,-6.985) 49(-1.95,-8.255) 50(1.95,-8.255) 51(-1.95,-9.525) 52(1.95,-9.525) 53(-1.95,-10.795) 54(1.95,-10.795) 55(-1.95,-12.065) 56(1.95,-12.065) 57(-1.95,-13.335) 58(1.95,-13.335) 59(-1.95,-14.605) 60(1.95,-14.605) 61(-1.95,-15.875) 62(1.95,-15.875) 63(-1.95,-17.145) 64(1.95,-17.145) 65(-1.95,-18.415) 66(1.95,-18.415) 67(-1.95,-19.685) 68(1.95,-19.685) 69(-1.95,-20.955) 70(1.95,-20.955) 71(-1.95,-22.225) 72(1.95,-22.225)
F.SilkS:
  lines w0.254: -3.09,22.905 -1.815,22.905 -1.815,22.97 1.815,22.97 1.815,22.905 ; -1.815,-22.905 -1.815,-22.97 1.815,-22.97 1.815,-22.905
Top Assembly:
  drawing of 221 lines, arcs and shapes, not listed
  text "'.Designator'" at 0.84,-4.047 h1
Top Courtyard:
  lines w0.254: -4.29,-23.36 4.29,-23.36 4.29,23.36 -4.29,23.36 -4.29,-23.36
Top Designator:
  text ".Designator" at -7.618,-0.508 h1.52

## PinHeader_2x37_P1.27mm_Horizontal [mm]
pads (74):
  rect 1x1 hole 0.65: 1(0,0)
  round 1 hole 0.65: 2(1.27,0) 3(0,-1.27) 4(1.27,-1.27) 5(0,-2.54) 6(1.27,-2.54) 7(0,-3.81) 8(1.27,-3.81) 9(0,-5.08) 10(1.27,-5.08) 11(0,-6.35) 12(1.27,-6.35) 13(0,-7.62) 14(1.27,-7.62) 15(0,-8.89) 16(1.27,-8.89) 17(0,-10.16) 18(1.27,-10.16) 19(0,-11.43) 20(1.27,-11.43) 21(0,-12.7) 22(1.27,-12.7) 23(0,-13.97) 24(1.27,-13.97) 25(0,-15.24) 26(1.27,-15.24) 27(0,-16.51) 28(1.27,-16.51) 29(0,-17.78) 30(1.27,-17.78) 31(0,-19.05) 32(1.27,-19.05) 33(0,-20.32) 34(1.27,-20.32) 35(0,-21.59) 36(1.27,-21.59) 37(0,-22.86) 38(1.27,-22.86) 39(0,-24.13) 40(1.27,-24.13) 41(0,-25.4) 42(1.27,-25.4) 43(0,-26.67) 44(1.27,-26.67) 45(0,-27.94) 46(1.27,-27.94) 47(0,-29.21) 48(1.27,-29.21) 49(0,-30.48) 50(1.27,-30.48) 51(0,-31.75) 52(1.27,-31.75) 53(0,-33.02) 54(1.27,-33.02) 55(0,-34.29) 56(1.27,-34.29) 57(0,-35.56) 58(1.27,-35.56) 59(0,-36.83) 60(1.27,-36.83) 61(0,-38.1) 62(1.27,-38.1) 63(0,-39.37) 64(1.27,-39.37) 65(0,-40.64) 66(1.27,-40.64) 67(0,-41.91) 68(1.27,-41.91) 69(0,-43.18) 70(1.27,-43.18) 71(0,-44.45) 72(1.27,-44.45) 73(0,-45.72) 74(1.27,-45.72)
F.SilkS:
  drawing of 153 lines, arcs and shapes, not listed
Top Assembly:
  drawing of 227 lines, arcs and shapes, not listed
  text "'.Designator'" at 2.774,-25.288 h0.6
Top Courtyard:
  lines w0.254: -1.14,-46.86 7.28,-46.86 7.28,1.14 -1.14,1.14 -1.14,-46.86
Top Designator:
  text ".Designator" at -4.548,-23.368 h1.52

## PinHeader_2x37_P1.27mm_Vertical [mm]
pads (74):
  rect 1x1 hole 0.65: 1(0,0)
  round 1 hole 0.65: 2(1.27,0) 3(0,-1.27) 4(1.27,-1.27) 5(0,-2.54) 6(1.27,-2.54) 7(0,-3.81) 8(1.27,-3.81) 9(0,-5.08) 10(1.27,-5.08) 11(0,-6.35) 12(1.27,-6.35) 13(0,-7.62) 14(1.27,-7.62) 15(0,-8.89) 16(1.27,-8.89) 17(0,-10.16) 18(1.27,-10.16) 19(0,-11.43) 20(1.27,-11.43) 21(0,-12.7) 22(1.27,-12.7) 23(0,-13.97) 24(1.27,-13.97) 25(0,-15.24) 26(1.27,-15.24) 27(0,-16.51) 28(1.27,-16.51) 29(0,-17.78) 30(1.27,-17.78) 31(0,-19.05) 32(1.27,-19.05) 33(0,-20.32) 34(1.27,-20.32) 35(0,-21.59) 36(1.27,-21.59) 37(0,-22.86) 38(1.27,-22.86) 39(0,-24.13) 40(1.27,-24.13) 41(0,-25.4) 42(1.27,-25.4) 43(0,-26.67) 44(1.27,-26.67) 45(0,-27.94) 46(1.27,-27.94) 47(0,-29.21) 48(1.27,-29.21) 49(0,-30.48) 50(1.27,-30.48) 51(0,-31.75) 52(1.27,-31.75) 53(0,-33.02) 54(1.27,-33.02) 55(0,-34.29) 56(1.27,-34.29) 57(0,-35.56) 58(1.27,-35.56) 59(0,-36.83) 60(1.27,-36.83) 61(0,-38.1) 62(1.27,-38.1) 63(0,-39.37) 64(1.27,-39.37) 65(0,-40.64) 66(1.27,-40.64) 67(0,-41.91) 68(1.27,-41.91) 69(0,-43.18) 70(1.27,-43.18) 71(0,-44.45) 72(1.27,-44.45) 73(0,-45.72) 74(1.27,-45.72)
F.SilkS:
  lines w0.254: -1.18,0 -1.18,0.81 0,0.81 ; -0.667,-0.81 -1.18,-0.81 -1.18,-46.465 -0.318,-46.465 ; 0.318,-46.465 0.952,-46.465 ; 1.588,-46.465 2.45,-46.465 2.45,0.745 1.588,0.745
Top Assembly:
  lines w0.254: -1.07,-46.355 2.34,-46.355 2.34,0.635 -0.218,0.635 -1.07,-0.218 -1.07,-46.355
  text "'.Designator'" at 1.475,-26.907 h1
Top Courtyard:
  lines w0.254: -1.57,-46.86 2.84,-46.86 2.84,1.14 -1.57,1.14 -1.57,-46.86
Top Designator:
  text ".Designator" at -6.983,-23.368 h1.52

## PinHeader_2x37_P1.27mm_Vertical_SMD [mm]
pads (74):
  rect 2.4x0.74 smd: 1(-1.95,22.86) 2(1.95,22.86) 3(-1.95,21.59) 4(1.95,21.59) 5(-1.95,20.32) 6(1.95,20.32) 7(-1.95,19.05) 8(1.95,19.05) 9(-1.95,17.78) 10(1.95,17.78) 11(-1.95,16.51) 12(1.95,16.51) 13(-1.95,15.24) 14(1.95,15.24) 15(-1.95,13.97) 16(1.95,13.97) 17(-1.95,12.7) 18(1.95,12.7) 19(-1.95,11.43) 20(1.95,11.43) 21(-1.95,10.16) 22(1.95,10.16) 23(-1.95,8.89) 24(1.95,8.89) 25(-1.95,7.62) 26(1.95,7.62) 27(-1.95,6.35) 28(1.95,6.35) 29(-1.95,5.08) 30(1.95,5.08) 31(-1.95,3.81) 32(1.95,3.81) 33(-1.95,2.54) 34(1.95,2.54) 35(-1.95,1.27) 36(1.95,1.27) 37(-1.95,0) 38(1.95,0) 39(-1.95,-1.27) 40(1.95,-1.27) 41(-1.95,-2.54) 42(1.95,-2.54) 43(-1.95,-3.81) 44(1.95,-3.81) 45(-1.95,-5.08) 46(1.95,-5.08) 47(-1.95,-6.35) 48(1.95,-6.35) 49(-1.95,-7.62) 50(1.95,-7.62) 51(-1.95,-8.89) 52(1.95,-8.89) 53(-1.95,-10.16) 54(1.95,-10.16) 55(-1.95,-11.43) 56(1.95,-11.43) 57(-1.95,-12.7) 58(1.95,-12.7) 59(-1.95,-13.97) 60(1.95,-13.97) 61(-1.95,-15.24) 62(1.95,-15.24) 63(-1.95,-16.51) 64(1.95,-16.51) 65(-1.95,-17.78) 66(1.95,-17.78) 67(-1.95,-19.05) 68(1.95,-19.05) 69(-1.95,-20.32) 70(1.95,-20.32) 71(-1.95,-21.59) 72(1.95,-21.59) 73(-1.95,-22.86) 74(1.95,-22.86)
F.SilkS:
  lines w0.254: -3.09,23.54 -1.815,23.54 -1.815,23.605 1.815,23.605 1.815,23.54 ; -1.815,-23.54 -1.815,-23.605 1.815,-23.605 1.815,-23.54
Top Assembly:
  drawing of 227 lines, arcs and shapes, not listed
  text "'.Designator'" at 0.84,-4.047 h1
Top Courtyard:
  lines w0.254: -4.29,-24 4.29,-24 4.29,24 -4.29,24 -4.29,-24
Top Designator:
  text ".Designator" at -7.618,-0.508 h1.52

## PinHeader_2x38_P1.27mm_Horizontal [mm]
pads (76):
  rect 1x1 hole 0.65: 1(0,0)
  round 1 hole 0.65: 2(1.27,0) 3(0,-1.27) 4(1.27,-1.27) 5(0,-2.54) 6(1.27,-2.54) 7(0,-3.81) 8(1.27,-3.81) 9(0,-5.08) 10(1.27,-5.08) 11(0,-6.35) 12(1.27,-6.35) 13(0,-7.62) 14(1.27,-7.62) 15(0,-8.89) 16(1.27,-8.89) 17(0,-10.16) 18(1.27,-10.16) 19(0,-11.43) 20(1.27,-11.43) 21(0,-12.7) 22(1.27,-12.7) 23(0,-13.97) 24(1.27,-13.97) 25(0,-15.24) 26(1.27,-15.24) 27(0,-16.51) 28(1.27,-16.51) 29(0,-17.78) 30(1.27,-17.78) 31(0,-19.05) 32(1.27,-19.05) 33(0,-20.32) 34(1.27,-20.32) 35(0,-21.59) 36(1.27,-21.59) 37(0,-22.86) 38(1.27,-22.86) 39(0,-24.13) 40(1.27,-24.13) 41(0,-25.4) 42(1.27,-25.4) 43(0,-26.67) 44(1.27,-26.67) 45(0,-27.94) 46(1.27,-27.94) 47(0,-29.21) 48(1.27,-29.21) 49(0,-30.48) 50(1.27,-30.48) 51(0,-31.75) 52(1.27,-31.75) 53(0,-33.02) 54(1.27,-33.02) 55(0,-34.29) 56(1.27,-34.29) 57(0,-35.56) 58(1.27,-35.56) 59(0,-36.83) 60(1.27,-36.83) 61(0,-38.1) 62(1.27,-38.1) 63(0,-39.37) 64(1.27,-39.37) 65(0,-40.64) 66(1.27,-40.64) 67(0,-41.91) 68(1.27,-41.91) 69(0,-43.18) 70(1.27,-43.18) 71(0,-44.45) 72(1.27,-44.45) 73(0,-45.72) 74(1.27,-45.72) 75(0,-46.99) 76(1.27,-46.99)
F.SilkS:
  drawing of 157 lines, arcs and shapes, not listed
Top Assembly:
  drawing of 233 lines, arcs and shapes, not listed
  text "'.Designator'" at 2.774,-25.923 h0.6
Top Courtyard:
  lines w0.254: -1.14,-48.13 7.28,-48.13 7.28,1.14 -1.14,1.14 -1.14,-48.13
Top Designator:
  text ".Designator" at -4.548,-24.003 h1.52

## PinHeader_2x38_P1.27mm_Vertical [mm]
pads (76):
  rect 1x1 hole 0.65: 1(0,0)
  round 1 hole 0.65: 2(1.27,0) 3(0,-1.27) 4(1.27,-1.27) 5(0,-2.54) 6(1.27,-2.54) 7(0,-3.81) 8(1.27,-3.81) 9(0,-5.08) 10(1.27,-5.08) 11(0,-6.35) 12(1.27,-6.35) 13(0,-7.62) 14(1.27,-7.62) 15(0,-8.89) 16(1.27,-8.89) 17(0,-10.16) 18(1.27,-10.16) 19(0,-11.43) 20(1.27,-11.43) 21(0,-12.7) 22(1.27,-12.7) 23(0,-13.97) 24(1.27,-13.97) 25(0,-15.24) 26(1.27,-15.24) 27(0,-16.51) 28(1.27,-16.51) 29(0,-17.78) 30(1.27,-17.78) 31(0,-19.05) 32(1.27,-19.05) 33(0,-20.32) 34(1.27,-20.32) 35(0,-21.59) 36(1.27,-21.59) 37(0,-22.86) 38(1.27,-22.86) 39(0,-24.13) 40(1.27,-24.13) 41(0,-25.4) 42(1.27,-25.4) 43(0,-26.67) 44(1.27,-26.67) 45(0,-27.94) 46(1.27,-27.94) 47(0,-29.21) 48(1.27,-29.21) 49(0,-30.48) 50(1.27,-30.48) 51(0,-31.75) 52(1.27,-31.75) 53(0,-33.02) 54(1.27,-33.02) 55(0,-34.29) 56(1.27,-34.29) 57(0,-35.56) 58(1.27,-35.56) 59(0,-36.83) 60(1.27,-36.83) 61(0,-38.1) 62(1.27,-38.1) 63(0,-39.37) 64(1.27,-39.37) 65(0,-40.64) 66(1.27,-40.64) 67(0,-41.91) 68(1.27,-41.91) 69(0,-43.18) 70(1.27,-43.18) 71(0,-44.45) 72(1.27,-44.45) 73(0,-45.72) 74(1.27,-45.72) 75(0,-46.99) 76(1.27,-46.99)
F.SilkS:
  lines w0.254: -1.18,0 -1.18,0.81 0,0.81 ; -0.667,-0.81 -1.18,-0.81 -1.18,-47.735 -0.318,-47.735 ; 0.318,-47.735 0.952,-47.735 ; 1.588,-47.735 2.45,-47.735 2.45,0.745 1.588,0.745
Top Assembly:
  lines w0.254: -1.07,-47.625 2.34,-47.625 2.34,0.635 -0.218,0.635 -1.07,-0.218 -1.07,-47.625
  text "'.Designator'" at 1.475,-27.542 h1
Top Courtyard:
  lines w0.254: -1.57,-48.13 2.84,-48.13 2.84,1.14 -1.57,1.14 -1.57,-48.13
Top Designator:
  text ".Designator" at -6.983,-24.003 h1.52

## PinHeader_2x38_P1.27mm_Vertical_SMD [mm]
pads (76):
  rect 2.4x0.74 smd: 1(-1.95,23.495) 2(1.95,23.495) 3(-1.95,22.225) 4(1.95,22.225) 5(-1.95,20.955) 6(1.95,20.955) 7(-1.95,19.685) 8(1.95,19.685) 9(-1.95,18.415) 10(1.95,18.415) 11(-1.95,17.145) 12(1.95,17.145) 13(-1.95,15.875) 14(1.95,15.875) 15(-1.95,14.605) 16(1.95,14.605) 17(-1.95,13.335) 18(1.95,13.335) 19(-1.95,12.065) 20(1.95,12.065) 21(-1.95,10.795) 22(1.95,10.795) 23(-1.95,9.525) 24(1.95,9.525) 25(-1.95,8.255) 26(1.95,8.255) 27(-1.95,6.985) 28(1.95,6.985) 29(-1.95,5.715) 30(1.95,5.715) 31(-1.95,4.445) 32(1.95,4.445) 33(-1.95,3.175) 34(1.95,3.175) 35(-1.95,1.905) 36(1.95,1.905) 37(-1.95,0.635) 38(1.95,0.635) 39(-1.95,-0.635) 40(1.95,-0.635) 41(-1.95,-1.905) 42(1.95,-1.905) 43(-1.95,-3.175) 44(1.95,-3.175) 45(-1.95,-4.445) 46(1.95,-4.445) 47(-1.95,-5.715) 48(1.95,-5.715) 49(-1.95,-6.985) 50(1.95,-6.985) 51(-1.95,-8.255) 52(1.95,-8.255) 53(-1.95,-9.525) 54(1.95,-9.525) 55(-1.95,-10.795) 56(1.95,-10.795) 57(-1.95,-12.065) 58(1.95,-12.065) 59(-1.95,-13.335) 60(1.95,-13.335) 61(-1.95,-14.605) 62(1.95,-14.605) 63(-1.95,-15.875) 64(1.95,-15.875) 65(-1.95,-17.145) 66(1.95,-17.145) 67(-1.95,-18.415) 68(1.95,-18.415) 69(-1.95,-19.685) 70(1.95,-19.685) 71(-1.95,-20.955) 72(1.95,-20.955) 73(-1.95,-22.225) 74(1.95,-22.225) 75(-1.95,-23.495) 76(1.95,-23.495)
F.SilkS:
  lines w0.254: -3.09,24.175 -1.815,24.175 -1.815,24.24 1.815,24.24 1.815,24.175 ; -1.815,-24.175 -1.815,-24.24 1.815,-24.24 1.815,-24.175
Top Assembly:
  drawing of 233 lines, arcs and shapes, not listed
  text "'.Designator'" at 0.84,-4.047 h1
Top Courtyard:
  lines w0.254: -4.29,-24.63 4.29,-24.63 4.29,24.63 -4.29,24.63 -4.29,-24.63
Top Designator:
  text ".Designator" at -7.618,-0.508 h1.52